# Altium footprint library Jack_PCB_Lib1.PcbLib: 66 footprints (part 3 of 5)
Each footprint in its own frame and in the unit in brackets; x right, y up, seen from the top. Pads: shape width x height; smd on the part's side, far side on the other; paste and mask are expansions set on the pad; w line width, h text height; cw(c..) or ccw(c..) is an arc to the next point about the centre after c.
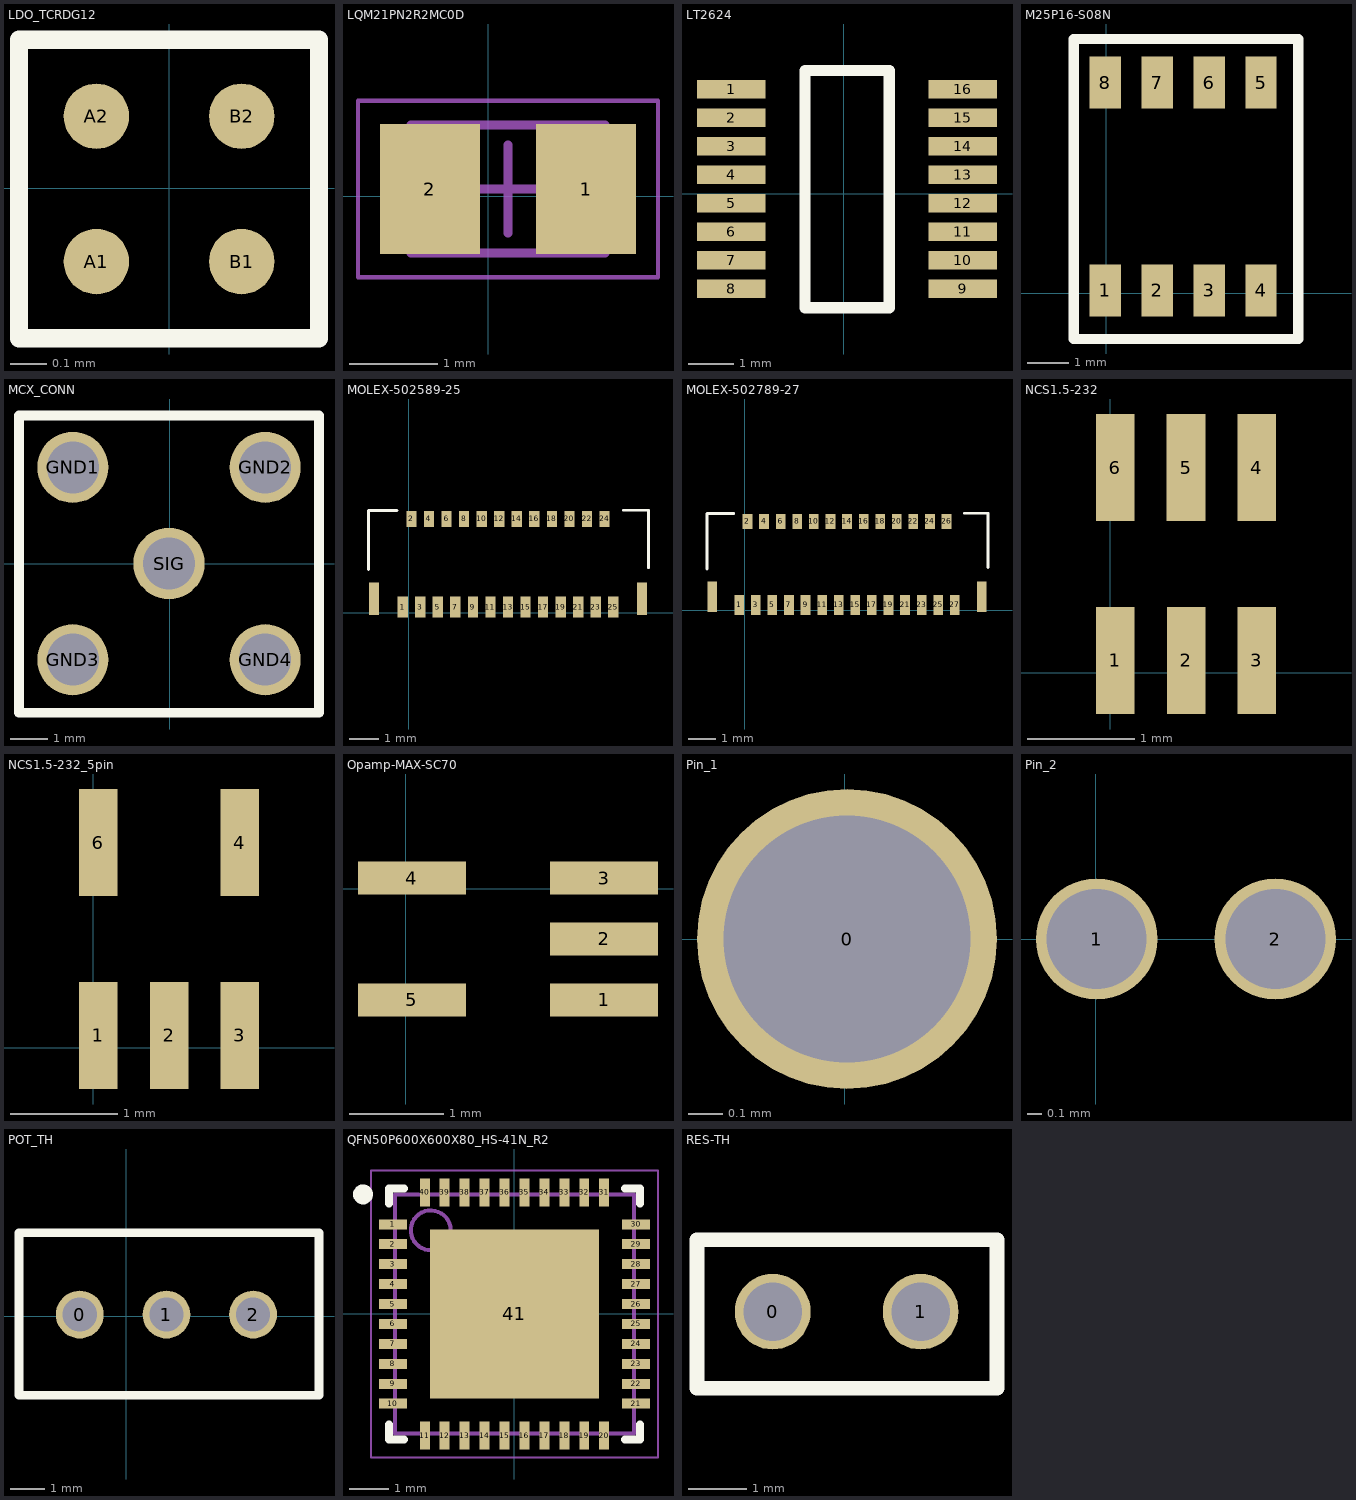
[diagram p2: the footprints below, top view; thin cyan lines are the x and y axes]

## LDO_TCRDG12 [mm]
pads (4):
  round 0.18 smd mask+0.07: A1(-0.201,-0.202) A2(-0.201,0.198) B1(0.199,-0.202) B2(0.199,0.198)
Top Overlay:
  lines w0.05: -0.414,-0.413 -0.414,0.409 0.412,0.409 0.412,-0.413 -0.414,-0.413

## LQM21PN2R2MC0D [mm]
pads (2):
  rect 1.13x1.47 smd: 1(1.111,0.08) 2(-0.659,0.08)
Mechanical 13:
  lines w0.1: -0.874,-0.645 1.326,-0.645 1.326,0.805 -0.874,0.805 -0.874,-0.645
Mechanical 15:
  lines w0.05: -1.474,-0.92 1.926,-0.92 1.926,1.08 -1.474,1.08 -1.474,-0.92
  lines w0.1: -0.274,0.08 0.726,0.08 ; 0.226,-0.42 0.226,0.58
3D body: height 1.05, standoff 0, extent -0.874,-0.645 -0.374,0.805
3D body: height 1.05, standoff 0, extent 0.826,-0.645 1.326,0.805
3D body: height 1.05, standoff 0, extent -0.374,-0.645 0.826,0.805

## LT2624 [mil]
pads (16):
  rect 60x16 smd mask+3.5: 1(-98.67,91.61) 2(-98.67,66.61) 3(-98.67,41.61) 4(-98.67,16.61) 5(-98.67,-8.39) 6(-98.67,-33.39) 7(-98.67,-58.39) 8(-98.67,-83.39) 9(104.33,-83.39) 10(104.33,-58.39) 11(104.33,-33.39) 12(104.33,-8.39) 13(104.33,16.61) 14(104.33,41.61) 15(104.33,66.61) 16(104.33,91.61)
Top Overlay:
  lines w10: -34,-100 -34,108 40,108 40,-100 -34,-100

## M25P15-VMC [mm]

## M25P16-S08N [mil]
pads (8):
  rect 30x50 smd: 1(-1,2.68) 2(49,2.68) 3(99,2.68) 4(149,2.68) 5(149,202.68) 6(99,202.68) 7(49,202.68) 8(-1,202.68)
Top Overlay:
  lines w10: -31.22,-44.2 184.58,-44.2 184.58,244.57 -31.22,244.57 -31.22,-44.2

## MCX_CONN [mil]
pads (5):
  round 74 hole 54: GND1(-101,100) GND2(99,100) GND3(-101,-100) GND4(99,-100) SIG(-1,0)
Top Overlay:
  lines w10: -157,-155 -157,154 155,154 155,-155 -157,-155

## MOLEX-502589-25 [mm]
pads (27):
  rect 0.35x0.72 smd mask+0.07: 1(-0.202,0.193) 3(0.398,0.193) 5(0.998,0.193) 7(1.598,0.193) 9(2.198,0.193) 11(2.798,0.193) 13(3.398,0.193) 15(3.998,0.193) 17(4.598,0.193) 19(5.198,0.193) 21(5.798,0.193) 23(6.398,0.193) 25(6.998,0.193)
  rect 0.35x0.55 smd mask+0.07: 2(0.098,3.208) 4(0.698,3.208) 6(1.298,3.208) 8(1.898,3.208) 10(2.498,3.208) 12(3.098,3.208) 14(3.698,3.208) 16(4.298,3.208) 18(4.898,3.208) 20(5.498,3.208) 22(6.098,3.208) 24(6.698,3.208)
  rect 0.35x1.1 smd mask+0.07: ""(-1.177,0.483) ""(7.973,0.483)
Top Overlay:
  lines w0.1: -1.369,1.483 -1.369,3.494 -0.401,3.494 ; 7.351,3.504 8.197,3.504 8.197,1.539

## MOLEX-502789-27 [mm]
pads (29):
  rect 0.35x0.72 smd mask+0.07: 1(-0.202,0.193) 3(0.398,0.193) 5(0.998,0.193) 7(1.598,0.193) 9(2.198,0.193) 11(2.798,0.193) 13(3.398,0.193) 15(3.998,0.193) 17(4.598,0.193) 19(5.198,0.193) 21(5.798,0.193) 23(6.398,0.193) 25(6.998,0.193) 27(7.598,0.193)
  rect 0.35x0.55 smd mask+0.07: 2(0.098,3.208) 4(0.698,3.208) 6(1.298,3.208) 8(1.898,3.208) 10(2.498,3.208) 12(3.098,3.208) 14(3.698,3.208) 16(4.298,3.208) 18(4.898,3.208) 20(5.498,3.208) 22(6.098,3.208) 24(6.698,3.208) 26(7.298,3.208)
  rect 0.35x1.1 smd mask+0.07: ""(-1.177,0.483) ""(8.573,0.483)
Top Overlay:
  lines w0.1: -1.369,1.483 -1.369,3.494 -0.401,3.494 ; 7.951,3.504 8.797,3.504 8.797,1.539

## NCS1.5-232 [mm] "balun"
pads (6):
  rect 0.36x1 smd: 1(0.045,0.113) 2(0.705,0.114) 3(1.365,0.114) 4(1.365,1.914) 5(0.705,1.914) 6(0.045,1.914)

## NCS1.5-232_5pin [mm] "balun"
pads (5):
  rect 0.36x1 smd: 1(0.045,0.113) 2(0.705,0.114) 3(1.365,0.114) 4(1.365,1.914) 6(0.045,1.914)

## Opamp-MAX-SC70 [mm]
pads (5):
  rect 1.15x0.35 smd: 1(2.117,-1.187) 2(2.117,-0.536) 3(2.117,0.114) 4(0.068,0.114) 5(0.068,-1.187)

## Pin_1 [mil]
pads (1):
  round 34 hole 28 mask+3.94: 0(0.25,0.01)

## Pin_2 [mil]
pads (2):
  round 34 hole 28 mask+3.94: 1(0.25,0.01) 2(50.25,0.01)

## POT_TH [mm] "2_54mmX2_54mm"
pads (3):
  round 1.4 hole 1: 0(-1.355,0.05) 1(1.185,0.05) 2(3.725,0.05)
Top Overlay:
  lines w0.254: -3.137,-2.316 5.656,-2.316 5.656,2.449 -3.137,2.449 -3.137,-2.316

## QFN50P600X600X80_HS-41N_R2 [mm] "QFN, 40-Leads, Body 6.00x6.00mm, Pitch 0.50mm, Thermal Pad 4.24x4.24mm, IPC Medium Density"
height 0.8
pads (41):
  rect 0.7x0.25 smd mask+0.08: 1(-3.05,2.25) 2(-3.05,1.75) 3(-3.05,1.25) 4(-3.05,0.75) 5(-3.05,0.25) 6(-3.05,-0.25) 7(-3.05,-0.75) 8(-3.05,-1.25) 21(3.05,-2.25) 22(3.05,-1.75) 23(3.05,-1.25) 24(3.05,-0.75) 25(3.05,-0.25) 26(3.05,0.25) 27(3.05,0.75) 28(3.05,1.25) 29(3.05,1.75) 30(3.05,2.25)
  rect 0.7x0.25 smd: 9(-3.05,-1.75) 10(-3.05,-2.25)
  rect 0.25x0.7 smd mask+0.08: 11(-2.25,-3.05) 12(-1.75,-3.05) 13(-1.25,-3.05) 14(-0.75,-3.05) 15(-0.25,-3.05) 16(0.25,-3.05) 17(0.75,-3.05) 18(1.25,-3.05) 19(1.75,-3.05) 20(2.25,-3.05) 31(2.25,3.05) 32(1.75,3.05) 33(1.25,3.05) 34(0.75,3.05) 35(0.25,3.05) 36(-0.25,3.05) 37(-0.75,3.05) 38(-1.25,3.05) 39(-1.75,3.05) 40(-2.25,3.05)
  rect 4.24x4.24 smd: 41(0,0)
Top Overlay:
  circle w0.25: c-3.8,3 r0.125
  lines w0.2: -3.15,-2.775 -3.15,-3.15 -2.775,-3.15 ; -3.15,2.775 -3.15,3.15 -2.775,3.15 ; 2.775,-3.15 3.15,-3.15 3.15,-2.775 ; 2.775,3.15 3.15,3.15 3.15,2.775
Mechanical 13:
  circle w0.1: c-2.1,2.1 r0.5
  lines w0.1: -3,-3 3,-3 3,3 -3,3 -3,-3
Mechanical 15:
  lines w0.05: -3.6,-3.6 3.6,-3.6 3.6,3.6 -3.6,3.6 -3.6,-3.6
  lines w0.1: -0.5,0 0.5,0 ; 0,-0.5 0,0.5
3D body: height 0.8, standoff 0.01, extent -3,-3 3,3

## RES-TH [mm] "through-hole Resistor"
pads (2):
  round 1.3 hole 1: 0(-39.05,101.015) 1(-36.51,101.015)
Top Overlay:
  lines w0.254: -40.35,99.7 -35.2,99.7 -35.2,102.25 -40.35,102.25 -40.35,99.7